# EAGLE library part 76829-16 (library con-molex-megatfit)
Mega FIT connector 16 pol Source: http://www.molex.com
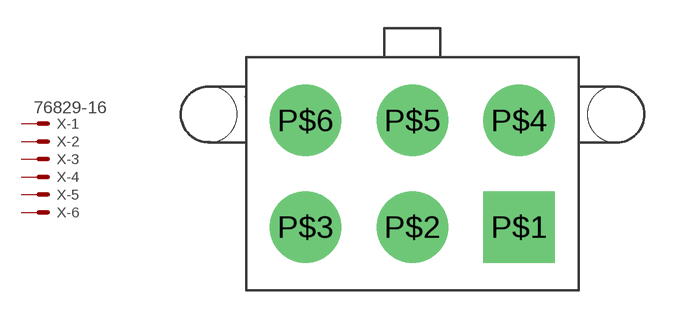
[diagram p0: symbol with the pads of 76829-0006; footprint 76829-0006]

Designator prefix X; gates -1=MV -2=M -3=M -4=M -5=M -6=M

## 76829-16 (OC_FARNELL: unknown; OC_NEWARK: unknown)  [76829-0006]
P$1  -1:S  pas
P$2  -2:S  pas
P$3  -3:S  pas
P$4  -4:S  pas
P$5  -5:S  pas
P$6  -6:S  pas

## Footprint 76829-0006 (pad centres in mm)
Mega FIT connector 16 pol Source: http://www.molex.com
drill 1.803 pad 3.81 square: P$1 5.7,-6.025
drill 1.803 pad 3.81: P$2 0,-6.025; P$3 -5.7,-6.025; P$4 5.7,-0.325; P$5 0,-0.325; P$6 -5.7,-0.325
hole 3 at -10.87,0
hole 3 at 10.87,0